# Altium schematic symbol library Connectors Rectangular 3.00 MicroFit.SchLib: 1 symbol
Pins are listed as number, name and electrical type; pins without a type are passive.

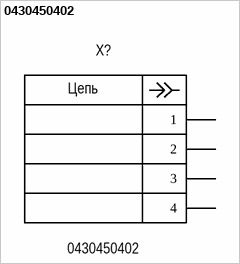
[diagram p0: symbol 0430450402]

## 0430450402
designator X?
Connector Rectangular 3.00 M 4P2R Board MicroFit; Manufacturer: Molex; Group: Mechanical; Pitch: 3.00mm; Positions: 4; Rows: 2; Current rating: 8.5A; Voltage rating: 300V; Placing: Right angle; Shrouding: Shrouded; Connector type: Header; Series name: Micro-Fit; Dimension: 9.65mm x 12.24mm; Operating temperature: -40°C +105°C; Mounting type: Through hole; Package: Connector Rectangular 3.00 M 4P2R Board MicroFit; Part name: 0430450402; Height: 7.37mm; Insulation color: Black; Component: Connector Rectangular; Contact type: Male pin; Fastening type: Locking ramp; Series: 43045; Connector style: Board; System: Connector
footprint 0430450402
pins: 1, 2, 3, 4
text: Цепь